# Altium schematic symbol library VL53L7CXV0GC1.SchLib: 2 symbols
Pins are listed as number, name and electrical type; pins without a type are passive.

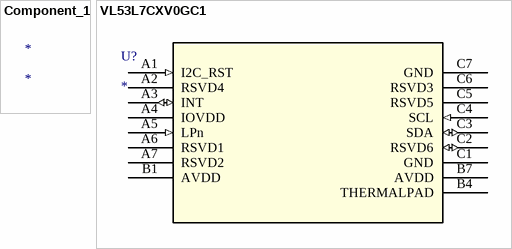
[diagram p0: symbols Component_1 to VL53L7CXV0GC1]

## Component_1
designator *

## VL53L7CXV0GC1
designator U?
Capteur de distance ToF (Time-of-Flight); Mfr_Name: STMicroelectronics; RefDes: RefDes; Type: Type
footprint LGA16_OPTICAL-LINER_STM
pins: A1 I2C_RST (in), A2 RSVD4 (power), A3 INT (io), A4 IOVDD (power), A5 LPn (in), A6 RSVD1 (power), A7 RSVD2 (power), B1 AVDD (power), B4 THERMALPAD (power), B7 AVDD (power), C1 GND (power), C2 RSVD6 (io), C3 SDA (io), C4 SCL (in), C5 RSVD5, C6 RSVD3 (power), C7 GND (power)